# Altium footprint library SO_Test.PcbLib: 37 footprints (part 1 of 3)
Each footprint in its own frame and in the unit in brackets; x right, y up, seen from the top. Pads: shape width x height; smd on the part's side, far side on the other; paste and mask are expansions set on the pad; w line width, h text height; cw(c..) or ccw(c..) is an arc to the next point about the centre after c.
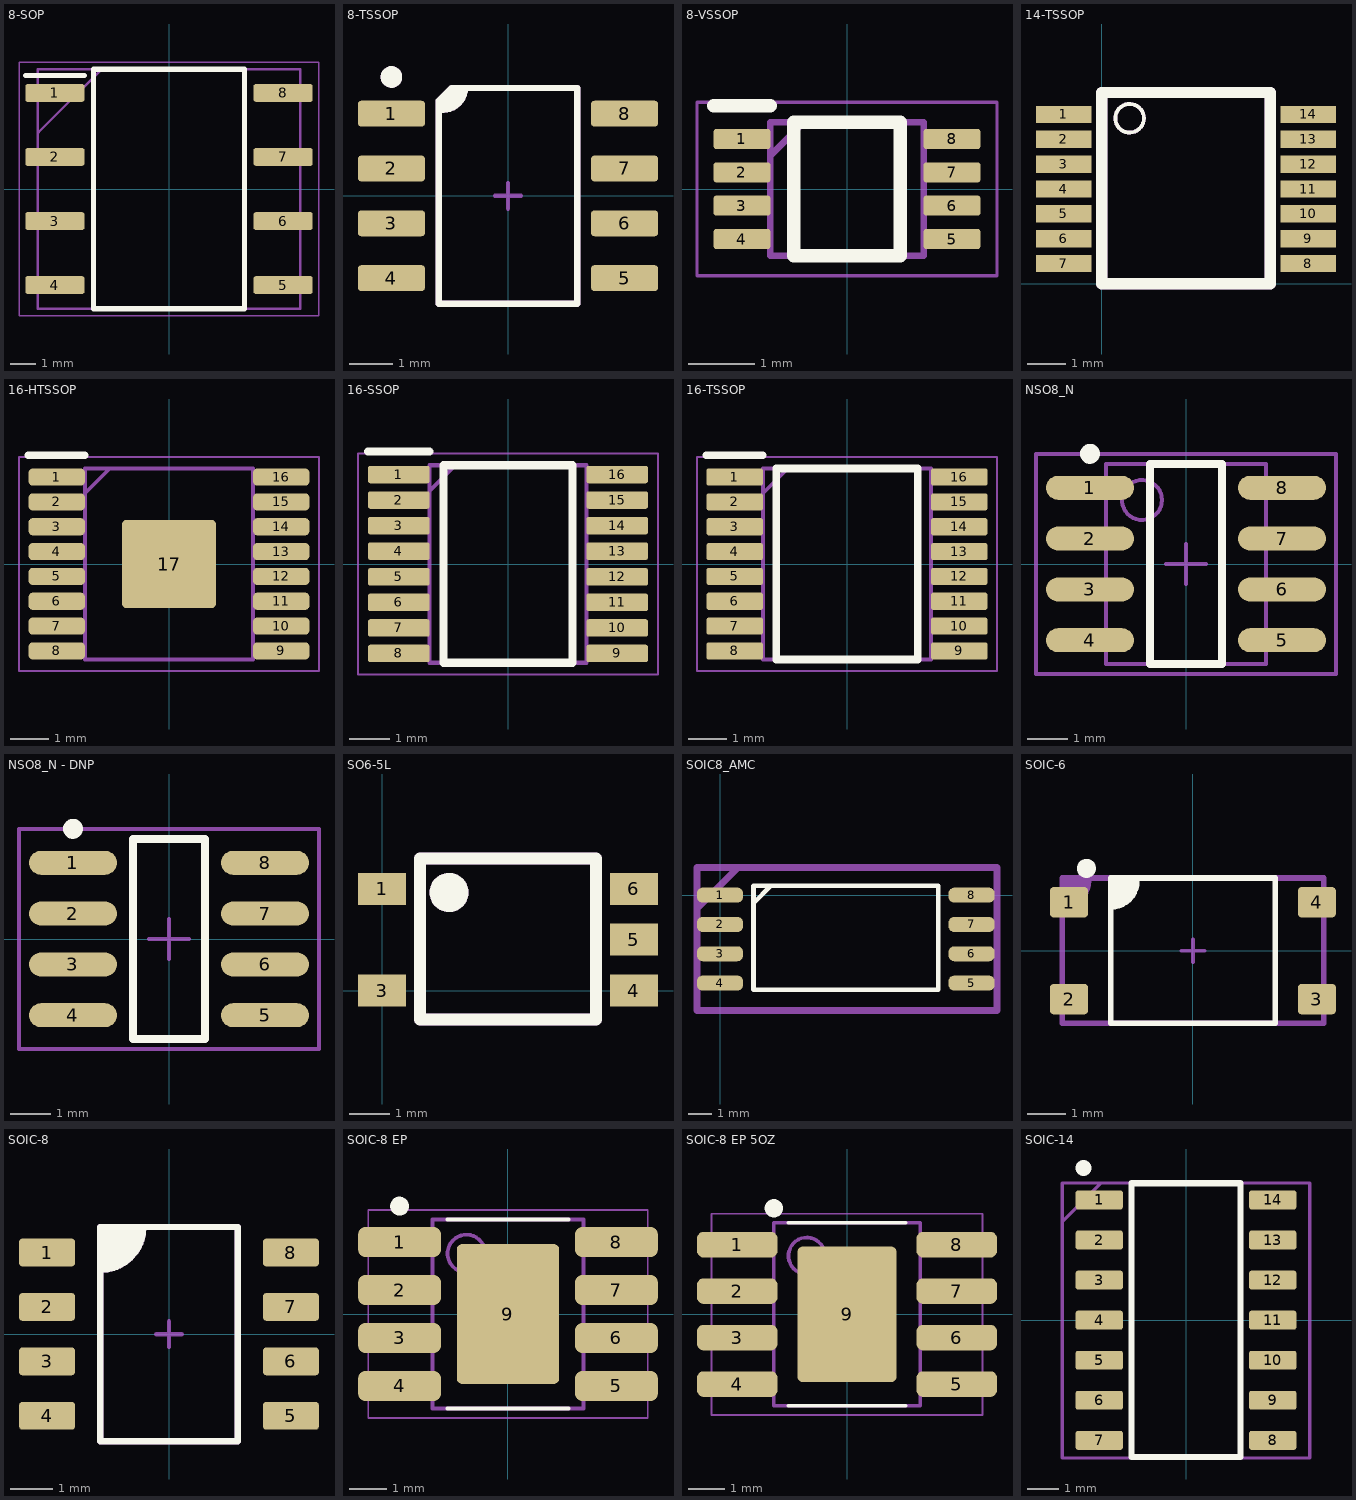
[diagram p0: the footprints below, top view; thin cyan lines are the x and y axes]

## 8-SOP [mm]
pads (8):
  rrect25% 2.35x0.7 smd: 1(-4.525,3.81) 2(-4.525,1.27) 3(-4.525,-1.27) 4(-4.525,-3.81) 5(4.525,-3.81) 6(4.525,-1.27) 7(4.525,1.27) 8(4.525,3.81)
Top Overlay:
  lines w0.2: -5.7,4.51 -3.35,4.51 ; -3,-4.75 3,-4.75 3,4.75 -3,4.75 -3,-4.75
Mechanical 15:
  lines w0.05: -5.95,-5.025 5.95,-5.025 5.95,5.025 -5.95,5.025 -5.95,-5.025
Mechanical 29:
  lines w0.1: -5.173,2.252 -2.696,4.729 ; -5.207,-4.75 5.207,-4.75 5.207,4.75 -5.207,4.75 -5.207,-4.75
  text "'.Designator'" at -2.43,-0.23 h1.02
3D body "ISO1050DUBR.stp": height 4.85, standoff 0, extent -5.2,-4.75 5.2,4.75

## 8-TSSOP [mm]
height 1.75
pads (8):
  rrect25% 1.55x0.6 smd: 1(-2.7,1.905) 2(-2.7,0.635) 3(-2.7,-0.635) 4(-2.7,-1.905) 5(2.7,-1.905) 6(2.7,-0.635) 7(2.7,0.635) 8(2.7,1.905)
Top Overlay:
  circle w0.25: c-2.7,2.755 r0.125
  region: -1.3,2.5 -1,2.5 -1,2.401 -1.076,2.217 -1.217,2.076 -1.401,2 -1.5,2 -1.6,2 -1.6,2.2
  lines w0.15: -1.6,2 -1.5,2 ccw(c-1.5,2.5) -1,2.5 ; -1.6,-2.5 1.6,-2.5 1.6,2.5 -1.3,2.5 -1.6,2.2 -1.6,-2.5
Mechanical 15:
  lines w0.1: -0.3,0 0.3,0 ; 0,-0.3 0,0.3
Mechanical 29:
  circle w0.25: c-2.7,2.755 r0.125
  region: -1.3,2.5 -1,2.5 -1,2.401 -1.076,2.217 -1.217,2.076 -1.401,2 -1.5,2 -1.6,2 -1.6,2.2
  lines w0.15: -1.6,2 -1.5,2 ccw(c-1.5,2.5) -1,2.5 ; -1.6,-2.5 -1.6,2.2 -1.3,2.5 1.6,2.5 1.6,-2.5 -1.6,-2.5
  text "'.Designator'" at -1.507,-0.143 h0.64
3D body "SO-8.STEP": height 1.5, standoff 0, extent -3.014,-2.45 3.014,2.45

## 8-VSSOP [mm]
pads (8):
  rrect25% 0.85x0.3 smd: 1(-1.575,0.75) 2(-1.575,0.25) 3(-1.575,-0.25) 4(-1.575,-0.75) 5(1.575,-0.75) 6(1.575,-0.25) 7(1.575,0.25) 8(1.575,0.75)
Top Overlay:
  lines w0.2: -2,1.25 -1.15,1.25 ; -0.8,-1 -0.8,1 0.8,1 0.8,-1 -0.8,-1
Mechanical 15:
  lines w0.05: -2.25,-1.3 -2.25,1.3 2.25,1.3 2.25,-1.3 -2.25,-1.3
Mechanical 29:
  lines w0.1: -1.15,0.5 -0.65,1 ; -1.15,-1 -1.15,1 1.15,1 1.15,-1 -1.15,-1
  text "'.Designator'" at -0.916,-0.119 h0.38
3D body "SN74LVC1G74DCUR.stp": height 0.9, standoff 0, extent -1.55,-1 1.55,1

## 14-TSSOP [mm]
pads (14):
  rect 1.45x0.45 smd: 1(-1,4.425) 2(-1,3.775) 3(-1,3.125) 4(-1,2.475) 5(-1,1.825) 6(-1,1.175) 7(-1,0.525) 8(5.4,0.525) 9(5.4,1.175) 10(5.4,1.825) 11(5.4,2.475) 12(5.4,3.125) 13(5.4,3.775) 14(5.4,4.425)
Top Overlay:
  circle w0.1: c0.725,4.325 r0.375
  lines w0.3: 0,0 0,5 4.4,5 4.4,0 0,0
Mechanical 29:
  circle w0.1: c0.725,4.325 r0.375
  lines w0.3: 0,0 4.4,0 4.4,5 0,5 0,0
  text "'.Designator'" at 1.979,4.649 h0.9
3D body "MCP6024-I_ST.stp": height 1.2, standoff 0, extent -1.05,0 5.35,5

## 16-HTSSOP [mm]
pads (17):
  rrect50% 1.475x0.45 smd: 1(-2.938,2.275) 2(-2.938,1.625) 3(-2.938,0.975) 4(-2.938,0.325) 5(-2.938,-0.325) 6(-2.938,-0.975) 7(-2.938,-1.625) 8(-2.938,-2.275) 9(2.938,-2.275) 10(2.938,-1.625) 11(2.938,-0.975) 12(2.938,-0.325) 13(2.938,0.325) 14(2.938,0.975) 15(2.938,1.625) 16(2.938,2.275)
  rrect10% 2.46x2.31 smd: 17(0,0)
Top Overlay:
  lines w0.2: -3.675,2.85 -2.2,2.85
Mechanical 15:
  lines w0.05: -3.925,-2.8 3.925,-2.8 3.925,2.8 -3.925,2.8 -3.925,-2.8
Mechanical 29:
  lines w0.1: -2.2,1.85 -1.55,2.5 ; -2.2,-2.5 -2.2,2.5 2.2,2.5 2.2,-2.5 -2.2,-2.5
  text "'.Designator'" at -2.417,-0.226 h1
3D body "DRV8876PWPT.stp": height 1.2, standoff 0, extent -3.2,-2.5 3.2,2.5

## 16-SSOP [mm]
pads (16):
  rrect25% 1.528x0.435 smd: 1(-2.711,2.222) 2(-2.711,1.588) 3(-2.711,0.952) 4(-2.711,0.318) 5(-2.711,-0.318) 6(-2.711,-0.952) 7(-2.711,-1.588) 8(-2.711,-2.222) 9(2.711,-2.222) 10(2.711,-1.588) 11(2.711,-0.952) 12(2.711,-0.318) 13(2.711,0.318) 14(2.711,0.952) 15(2.711,1.588) 16(2.711,2.222)
Top Overlay:
  lines w0.2: -3.475,2.79 -1.948,2.79 ; -1.598,-2.452 -1.598,2.452 1.598,2.452 1.598,-2.452 -1.598,-2.452
Mechanical 15:
  lines w0.05: -3.725,-2.75 -3.725,2.75 3.725,2.75 3.725,-2.75 -3.725,-2.75
Mechanical 29:
  lines w0.1: -1.948,1.818 -1.312,2.452 ; -1.948,-2.452 -1.948,2.452 1.948,2.452 1.948,-2.452 -1.948,-2.452
  text "'.Designator'" at -1.507,-0.143 h0.64
3D body "ISO1500DBQ.stp": height 1.75, standoff 0, extent -2.997,-2.452 2.998,2.453

## 16-TSSOP [mm]
pads (16):
  rrect25% 1.475x0.45 smd: 1(-2.938,2.275) 2(-2.938,1.625) 3(-2.938,0.975) 4(-2.938,0.325) 5(-2.938,-0.325) 6(-2.938,-0.975) 7(-2.938,-1.625) 8(-2.938,-2.275) 9(2.938,-2.275) 10(2.938,-1.625) 11(2.938,-0.975) 12(2.938,-0.325) 13(2.938,0.325) 14(2.938,0.975) 15(2.938,1.625) 16(2.938,2.275)
Top Overlay:
  lines w0.2: -3.675,2.85 -2.2,2.85 ; -1.85,-2.5 -1.85,2.5 1.85,2.5 1.85,-2.5 -1.85,-2.5
Mechanical 15:
  lines w0.05: -3.925,-2.8 -3.925,2.8 3.925,2.8 3.925,-2.8 -3.925,-2.8
Mechanical 29:
  lines w0.1: -2.2,1.85 -1.55,2.5 ; -2.2,-2.5 -2.2,2.5 2.2,2.5 2.2,-2.5 -2.2,-2.5
  text "'.Designator'" at -1.507,-0.143 h0.64
3D body "MAX3221IPWR.stp": height 1.2, standoff 0, extent -3.2,-2.5 3.2,2.5

## NSO8_N [mm] "SOIC, 8-Leads, Body 4.9x3.9mm, Pitch 1.27mm, IPC Medium Density"
height 1.75
pads (8):
  oval 2.2x0.6 smd: 1(-2.4,1.905) 2(-2.4,0.635) 3(-2.4,-0.635) 4(-2.4,-1.905) 5(2.4,-1.905) 6(2.4,-0.635) 7(2.4,0.635) 8(2.4,1.905)
Top Overlay:
  circle w0.25: c-2.4,2.755 r0.125
  lines w0.2: -0.9,-2.5 0.9,-2.5 0.9,2.5 -0.9,2.5 -0.9,-2.5
Mechanical 15:
  lines w0.1: -0.5,0 0.5,0 ; 0,-0.5 0,0.5 ; -3.75,-2.75 3.75,-2.75 3.75,2.75 -3.75,2.75 -3.75,-2.75
Mechanical 29:
  circle w0.1: c-1.1,1.6 r0.5
  lines w0.1: -2,-2.5 2,-2.5 2,2.5 -2,2.5 -2,-2.5
  text "'.Designator'" at -0.175,1.95 h0.8
3D body "AT25SF161-SSHD-B.stp": height 1.76, standoff 0.01, extent -2.997,-2.462 2.998,2.463

## NSO8_N - DNP [mm] "SOIC, 8-Leads, Body 4.9x3.9mm, Pitch 1.27mm, IPC Medium Density"
height 1.75
pads (8):
  oval 2.2x0.6 smd: 1(-2.4,1.905) 2(-2.4,0.635) 3(-2.4,-0.635) 4(-2.4,-1.905) 5(2.4,-1.905) 6(2.4,-0.635) 7(2.4,0.635) 8(2.4,1.905)
Top Overlay:
  circle w0.25: c-2.4,2.755 r0.125
  lines w0.2: -0.9,-2.5 -0.9,2.5 0.9,2.5 0.9,-2.5 -0.9,-2.5
Mechanical 15:
  lines w0.1: -0.5,0 0.5,0 ; 0,-0.5 0,0.5 ; -3.75,-2.75 -3.75,2.75 3.75,2.75 3.75,-2.75 -3.75,-2.75

## SO6-5L [mm]
pads (5):
  rect 1.2x0.8 smd: 1(0,2.54) 3(0,0) 4(6.3,0) 5(6.3,1.27) 6(6.3,2.54)
Top Overlay:
  circle w0.5: c1.675,2.45 r0.237
  lines w0.3: 0.95,-0.725 0.95,3.3 5.35,3.3 5.35,-0.725 0.95,-0.725
Mechanical 29:
  circle w0.5: c1.674,2.45 r0.237
  lines w0.3: 0.95,-0.725 5.35,-0.725 5.35,3.3 0.95,3.3 0.95,-0.725
  text "'.Designator'" at 1.218,1.2 h0.8
3D body "User Library-TLP-152-1.STEP": height 2.1, standoff -0.01, extent -0.238,-0.6 6.538,3.2

## SOIC8_AMC [mm]
pads (8):
  rrect75% 2x0.65 smd: 1(0,0) 2(0,-1.27) 3(0,-2.54) 4(0,-3.81) 5(10.9,-3.81) 6(10.9,-2.54) 7(10.9,-1.27) 8(10.9,0)
Top Overlay:
  lines w0.2: 1.45,-0.375 1.45,-0.35 2.2,0.4 ; 1.45,-4.1 9.45,-4.1 9.45,0.4 1.45,0.4 1.45,-4.1
Mechanical 29:
  lines w0.3: -1,-0.575 0.775,1.2 0.975,1.2 ; -1,-5 12,-5 12,1.2 -1,1.2 -1,-5
  text "'.Designator'" at 1.774,-2.318 h1.5
3D body "DWV8_TEX.step": height 2.8, standoff 0, extent -0.28,-4.872 11.48,1.072

## SOIC-6 [mm] "SOIC-6, 4 Lead"
pads (4):
  rrect25% 1x0.8 smd: 1(-3.25,1.27) 2(-3.25,-1.27) 3(3.25,-1.27) 4(3.25,1.27)
Top Overlay:
  circle w0.25: c-2.794,2.159 r0.125
  region: -2.159,1.905 -1.472,1.905 -1.472,1.524 -1.853,1.143 -2.159,1.143
  lines w0.15: -2.159,1.143 ccw(c-2.159,1.83) -1.472,1.83 ; -2.159,-1.905 -2.159,1.905 2.159,1.905 2.159,-1.905 -2.159,-1.905
Mechanical 15:
  lines w0.1: -0.3,0 0.3,0 ; 0,-0.3 0,0.3
Mechanical 29:
  region: -3.429,1.905 -2.742,1.905 -2.742,1.524 -3.123,1.143 -3.429,1.143
  lines w0.15: -3.429,1.143 ccw(c-3.429,1.83) -2.742,1.83 ; -3.429,-1.905 3.429,-1.905 3.429,1.905 -3.429,1.905 -3.429,-1.905
  text "'.Designator'" at -2.457,-0.317 h1.02
3D body "LTV-357T.STEP": height 2.1, standoff 0, extent -3.514,-1.925 3.514,1.925

## SOIC-8 [mm]
pads (8):
  rrect25% 1.31x0.65 smd: 1(-2.845,1.905) 2(-2.845,0.635) 3(-2.845,-0.635) 4(-2.845,-1.905) 5(2.845,-1.905) 6(2.845,-0.635) 7(2.845,0.635) 8(2.845,1.905)
Top Overlay:
  region: -1.6,2.5 -0.6,2.5 -0.6,2.1 -1.2,1.5 -1.6,1.5
  lines w0.15: -1.6,1.5 ccw(c-1.6,2.5) -0.6,2.5 ; -1.6,-2.5 -1.6,2.5 1.6,2.5 1.6,-2.5 -1.6,-2.5
Mechanical 15:
  lines w0.1: -0.3,0 0.3,0 ; 0,-0.3 0,0.3
Mechanical 29:
  region: -1.6,2.5 -0.6,2.5 -0.6,2.1 -1.2,1.5 -1.6,1.5
  lines w0.15: -1.6,1.5 ccw(c-1.6,2.5) -0.6,2.5 ; -1.6,-2.5 1.6,-2.5 1.6,2.5 -1.6,2.5 -1.6,-2.5
  text "'.Designator'" at 0.238,-1.84 h0.76
3D body "Infineon PG-DSO-8.STEP": height 1.8, standoff 0.01, extent -3.036,-2.45 3.036,2.45

## SOIC-8 EP [mm] "SOIC, 8-Leads, Body 4.90x3.90mm, Pitch 1.27mm, Thermal Pad 3.70x2.71mm, IPC Medium Density"
height 1.7
pads (9):
  rrect50% 2.2x0.8 smd: 1(-2.87,1.905) 2(-2.87,0.635) 3(-2.87,-0.635) 4(-2.87,-1.905) 5(2.87,-1.905) 6(2.87,-0.635) 7(2.87,0.635) 8(2.87,1.905)
  rrect10% 2.71x3.7 smd: 9(0,0)
Top Overlay:
  circle w0.25: c-2.87,2.855 r0.125
  lines w0.1: -1.6,-2.5 1.6,-2.5 ; -1.6,2.5 1.6,2.5
Mechanical 15:
  lines w0.05: -3.7,-2.75 3.7,-2.75 3.7,2.75 -3.7,2.75 -3.7,-2.75
  lines w0.1: -0.5,0 0.5,0 ; 0,-0.5 0,0.5
Mechanical 29:
  circle w0.1: c-1.1,1.6 r0.5
  lines w0.1: -2,-2.5 -2,2.5 2,2.5 2,-2.5 -2,-2.5
  text "'.Designator'" at -1.84,-0.365 h0.76
3D body "SOIC127P600X170_HS-9N.step": height 1.7, standoff 0, extent -3,-2.5 3,2.5

## SOIC-8 EP 5OZ [mm] "SOIC, 8-Leads, Body 4.90x3.90mm, Pitch 1.27mm, Thermal Pad 3.70x2.71mm, IPC Medium Density"
height 1.7
pads (9):
  rrect50% 2.2x0.7 smd: 1(-3,1.905) 2(-3,0.635) 3(-3,-0.635) 4(-3,-1.905) 5(3,-1.905) 6(3,-0.635) 7(3,0.635) 8(3,1.905)
  rrect10% 2.71x3.7 smd: 9(0,0)
Top Overlay:
  circle w0.25: c-2,2.9 r0.125
  lines w0.1: -1.6,-2.5 1.6,-2.5 ; -1.6,2.5 1.6,2.5
Mechanical 15:
  lines w0.05: -3.7,-2.75 3.7,-2.75 3.7,2.75 -3.7,2.75 -3.7,-2.75
  lines w0.1: -0.5,0 0.5,0 ; 0,-0.5 0,0.5
Mechanical 29:
  circle w0.1: c-1.1,1.6 r0.5
  lines w0.1: -2,-2.5 -2,2.5 2,2.5 2,-2.5 -2,-2.5
  text "'.Designator'" at -1.84,-0.365 h0.76
3D body "SOIC127P600X170_HS-9N.step": height 1.7, standoff 0, extent -3,-2.5 3,2.5

## SOIC-14 [mm]
pads (14):
  rrect25% 1.5x0.6 smd: 1(-2.75,3.81) 2(-2.75,2.54) 3(-2.75,1.27) 4(-2.75,0) 5(-2.75,-1.27) 6(-2.75,-2.54) 7(-2.75,-3.81) 8(2.75,-3.81) 9(2.75,-2.54) 10(2.75,-1.27) 11(2.75,0) 12(2.75,1.27) 13(2.75,2.54) 14(2.75,3.81)
Top Overlay:
  lines w0.2: -1.725,-4.34 -1.725,4.335 1.725,4.335 1.725,-4.34 -1.725,-4.34
  lines w0.25: -3.125,4.825 cw(c-3.25,4.825) -3.125,4.827
Mechanical 29:
  lines w0.1: -3.91,3.132 -2.702,4.34 ; -3.925,-4.375 -3.925,4.35 3.925,4.35 3.925,-4.375 -3.925,-4.375
  text "'.Designator'" at -3.043,-0.312 h1.27
3D body "SL.STEP": height 1.75, standoff 0, extent -2.998,-4.323 2.997,4.322